# EAGLE library part ARDUINO_SHIELD (library BTN8982_Motor_Control_Shield_Rev_1.0)
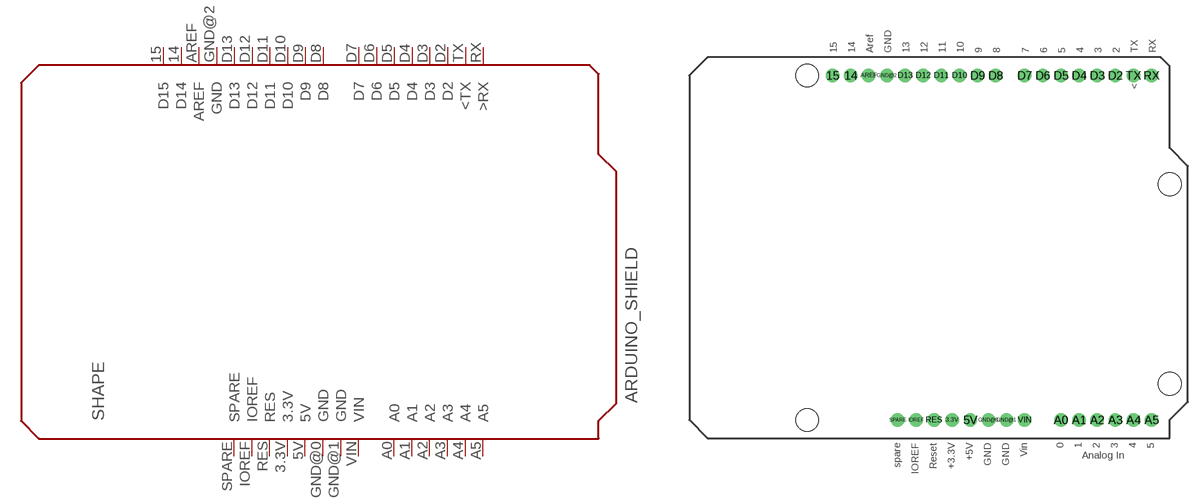
[diagram p1: symbol with the pads of XMC1100_FOR_ARDUINO; footprint XMC1100_FOR_ARDUINO]

Designator prefix SHAPE

## ARDUINO_SHIELD  [XMC1100_FOR_ARDUINO]
3.3V  3.3V
5V  5V
14  D14
15  D15
A0  A0
A1  A1
A2  A2
A3  A3
A4  A4
A5  A5
AREF  AREF
D2  D2
D3  D3
D4  D4
D5  D5
D6  D6
D7  D7
D8  D8
D9  D9
D10  D10
D11  D11
D12  D12
D13  D13
GND@0  GND
GND@1  GND
GND@2  GND
IOREF  IOREF
RES  RES
RX  >RX
SPARE  SPARE
TX  <TX
VIN  VIN

## Footprint XMC1100_FOR_ARDUINO (pad centres in mm)
drill 1.016 pad 1.88: 3.3V 26.67,2.54; 5V 29.21,2.54; 14 12.446,50.8; 15 9.906,50.8; A0 41.91,2.54; A1 44.45,2.54; A2 46.99,2.54; A3 49.53,2.54; A4 52.07,2.54; A5 54.61,2.54; AREF 14.986,50.8; D2 49.53,50.8; D3 46.99,50.8; D4 44.45,50.8; D5 41.91,50.8; D6 39.37,50.8; D7 36.83,50.8; D8 32.766,50.8; D9 30.226,50.8; D10 27.686,50.8; D11 25.146,50.8; D12 22.606,50.8; D13 20.066,50.8; GND@0 31.75,2.54; GND@1 34.29,2.54; GND@2 17.526,50.8; IOREF 21.59,2.54; RES 24.13,2.54; RX 54.61,50.8; SPARE 19.05,2.54; TX 52.07,50.8; VIN 36.83,2.54
hole 3.2 at 57.15,35.56
hole 3.2 at 57.15,7.62
hole 3.2 at 6.35,50.8
hole 3.2 at 6.35,2.54